# Altium footprint library LDO.PcbLib: 100 footprints (part 4 of 7)
Each footprint in its own frame and in the unit in brackets; x right, y up, seen from the top. Pads: shape width x height; smd on the part's side, far side on the other; paste and mask are expansions set on the pad; w line width, h text height; cw(c..) or ccw(c..) is an arc to the next point about the centre after c.
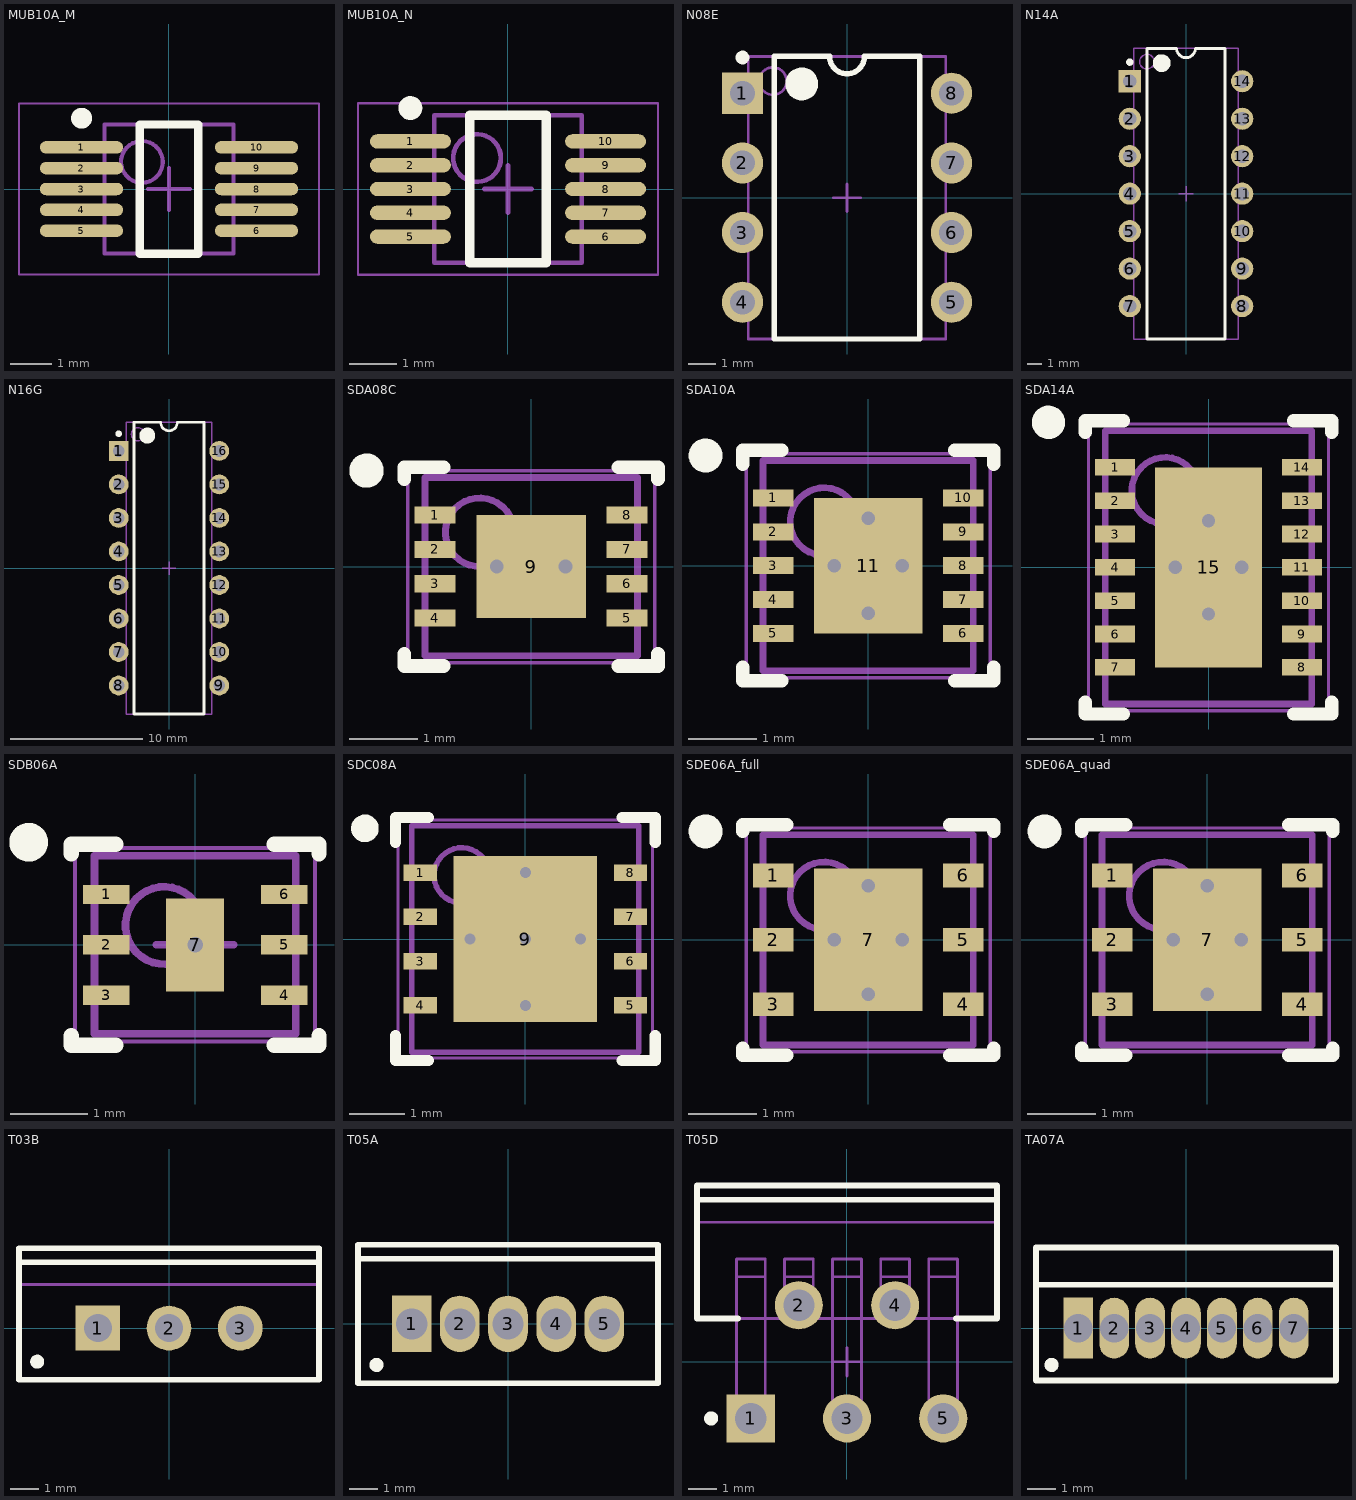
[diagram p3: the footprints below, top view; thin cyan lines are the x and y axes]

## MUB10A_M [mm] "TSSOP, 10-Leads, Body 3x3mm, Pitch 0.5mm, IPC Low Density"
height 1.09
pads (10):
  oval 2x0.3 smd: 1(-2.1,1) 2(-2.1,0.5) 3(-2.1,0) 4(-2.1,-0.5) 5(-2.1,-1) 6(2.1,-1) 7(2.1,-0.5) 8(2.1,0) 9(2.1,0.5) 10(2.1,1)
Top Overlay:
  circle w0.25: c-2.1,1.7 r0.125
  lines w0.2: -0.7,-1.55 0.7,-1.55 0.7,1.55 -0.7,1.55 -0.7,-1.55
Mechanical 13:
  circle w0.1: c-0.65,0.65 r0.5
  lines w0.1: -1.55,-1.55 1.55,-1.55 1.55,1.55 -1.55,1.55 -1.55,-1.55
Mechanical 15:
  lines w0.05: -3.6,-2.05 3.6,-2.05 3.6,2.05 -3.6,2.05 -3.6,-2.05
  lines w0.1: -0.5,0 0.5,0 ; 0,-0.5 0,0.5
3D body: height 1.09, standoff 0.06, extent -1.55,-1.55 1.55,1.55

## MUB10A_N [mm] "TSSOP, 10-Leads, Body 3x3mm, Pitch 0.5mm, IPC Medium Density"
height 1.09
pads (10):
  oval 1.7x0.3 smd: 1(-2.05,1) 2(-2.05,0.5) 3(-2.05,0) 4(-2.05,-0.5) 5(-2.05,-1) 6(2.05,-1) 7(2.05,-0.5) 8(2.05,0) 9(2.05,0.5) 10(2.05,1)
Top Overlay:
  circle w0.25: c-2.05,1.7 r0.125
  lines w0.2: -0.8,-1.55 0.8,-1.55 0.8,1.55 -0.8,1.55 -0.8,-1.55
Mechanical 13:
  circle w0.1: c-0.65,0.65 r0.5
  lines w0.1: -1.55,-1.55 1.55,-1.55 1.55,1.55 -1.55,1.55 -1.55,-1.55
Mechanical 15:
  lines w0.05: -3.15,-1.8 3.15,-1.8 3.15,1.8 -3.15,1.8 -3.15,-1.8
  lines w0.1: -0.5,0 0.5,0 ; 0,-0.5 0,0.5
3D body: height 1.09, standoff 0.06, extent -1.55,-1.55 1.55,1.55

## N08E [mm] "DIP, 8-Pin, Row Spacing 7.62 mm, Pitch 2.54 mm"
height 5.34
pads (8):
  rect 1.5x1.5 hole 0.9: 1(-3.81,3.81)
  round 1.5 hole 0.9: 2(-3.81,1.27) 3(-3.81,-1.27) 4(-3.81,-3.81) 5(3.81,-3.81) 6(3.81,-1.27) 7(3.81,1.27) 8(3.81,3.81)
Top Overlay:
  circle w0.6: c-1.65,4.15 r0.3
  circle w0.25: c-3.81,5.11 r0.125
  lines w0.2: -2.65,-5.15 2.65,-5.15 2.65,5.15 0.635,5.15 cw(c0,5.15) -0.635,5.15 -2.65,5.15 -2.65,-5.15
Mechanical 13:
  circle w0.1: c-2.7,4.25 r0.5
  lines w0.1: -3.6,-5.15 3.6,-5.15 3.6,5.15 -3.6,5.15 -3.6,-5.15
Mechanical 15:
  lines w0.1: -0.5,0 0.5,0 ; 0,-0.5 0,0.5
3D body: height 5.34, standoff 0, extent -3.6,-5.15 3.6,5.15

## N14A [mm] "DIP, 14-Pin, Row Spacing 7.62 mm, Pitch 2.54 mm"
height 5.08
pads (14):
  rect 1.5x1.5 hole 0.9: 1(-3.81,7.62)
  round 1.5 hole 0.9: 2(-3.81,5.08) 3(-3.81,2.54) 4(-3.81,0) 5(-3.81,-2.54) 6(-3.81,-5.08) 7(-3.81,-7.62) 8(3.81,-7.62) 9(3.81,-5.08) 10(3.81,-2.54) 11(3.81,0) 12(3.81,2.54) 13(3.81,5.08) 14(3.81,7.62)
Top Overlay:
  circle w0.25: c-3.81,8.92 r0.125
  circle w0.6: c-1.65,8.85 r0.3
  lines w0.2: -2.65,-9.85 -2.65,9.85 -0.635,9.85 ccw(c0,9.85) 0.635,9.85 2.65,9.85 2.65,-9.85 -2.65,-9.85
Mechanical 13:
  circle w0.1: c-2.65,8.95 r0.5
  lines w0.1: -3.55,-9.85 -3.55,9.85 3.55,9.85 3.55,-9.85 -3.55,-9.85
Mechanical 15:
  lines w0.1: -0.5,0 0.5,0 ; 0,-0.5 0,0.5
3D body: height 5.08, standoff 0, extent -3.55,-9.85 3.55,9.85

## N16G [mm] "DIP, 16-Pin, Row Spacing 7.62 mm, Pitch 2.54 mm"
height 5.08
pads (16):
  rect 1.5x1.5 hole 0.9: 1(-3.81,8.89)
  round 1.5 hole 0.9: 2(-3.81,6.35) 3(-3.81,3.81) 4(-3.81,1.27) 5(-3.81,-1.27) 6(-3.81,-3.81) 7(-3.81,-6.35) 8(-3.81,-8.89) 9(3.81,-8.89) 10(3.81,-6.35) 11(3.81,-3.81) 12(3.81,-1.27) 13(3.81,1.27) 14(3.81,3.81) 15(3.81,6.35) 16(3.81,8.89)
Top Overlay:
  circle w0.6: c-1.65,10.05 r0.3
  circle w0.25: c-3.81,10.19 r0.125
  lines w0.2: -2.65,-11.05 2.65,-11.05 2.65,11.05 0.635,11.05 cw(c0,11.05) -0.635,11.05 -2.65,11.05 -2.65,-11.05
Mechanical 13:
  circle w0.1: c-2.35,10.15 r0.5
  lines w0.1: -3.25,-11.05 3.25,-11.05 3.25,11.05 -3.25,11.05 -3.25,-11.05
Mechanical 15:
  lines w0.1: -0.5,0 0.5,0 ; 0,-0.5 0,0.5
3D body: height 5.08, standoff 0, extent -3.25,-11.05 3.25,11.05

## SDA08C [mm] "SON, 8-Leads, Body 2.5x3mm, Pitch 0.5mm, NSC Recommended"
height 0.8
pads (9):
  rect 0.6x0.25 smd paste-0.125 mask+0.051: 1(-1.4,0.75) 2(-1.4,0.25) 3(-1.4,-0.25) 4(-1.4,-0.75) 5(1.4,-0.75) 6(1.4,-0.25) 7(1.4,0.25) 8(1.4,0.75)
  rect 1.6x1.5 smd paste-0.05 mask+0.051: 9(0,0)
via 0.5,0 diameter 0.5 hole 0.2
via -0.5,0 diameter 0.5 hole 0.2
Top Overlay:
  circle w0.25: c-2.4,1.4 r0.125
  lines w0.2: -1.85,-1.275 -1.85,-1.45 -1.275,-1.45 ; -1.85,1.275 -1.85,1.45 -1.275,1.45 ; 1.275,-1.45 1.85,-1.45 1.85,-1.275 ; 1.275,1.45 1.85,1.45 1.85,1.275
Top Paste:
  region: -1.9,0.875 -1.9,0.625 -1.2,0.625 -1.2,0.875
  region: -1.9,0.375 -1.9,0.125 -1.2,0.125 -1.2,0.375
  region: -1.9,-0.125 -1.9,-0.375 -1.2,-0.375 -1.2,-0.125
  region: -1.9,-0.625 -1.9,-0.875 -1.2,-0.875 -1.2,-0.625
  region: 1.2,-0.625 1.2,-0.875 1.9,-0.875 1.9,-0.625
  region: 1.2,-0.125 1.2,-0.375 1.9,-0.375 1.9,-0.125
  region: 1.2,0.375 1.2,0.125 1.9,0.125 1.9,0.375
  region: 1.2,0.875 1.2,0.625 1.9,0.625 1.9,0.875
Mechanical 13:
  circle w0.1: c-0.75,0.5 r0.5
  lines w0.1: -1.55,-1.3 -1.55,1.3 1.55,1.3 1.55,-1.3 -1.55,-1.3
Mechanical 15:
  lines w0.05: -1.8,-1.4 1.8,-1.4 1.8,1.4 -1.8,1.4 -1.8,-1.4
  lines w0.1: -0.5,0 0.5,0 ; 0,-0.5 0,0.5
3D body: height 0.8, standoff 0, extent -1.549,-1.299 1.549,1.299

## SDA10A [mm] "SON, 10-Leads, Body 3x3 mm, Pitch 0.5mm, NSC Recommended"
height 0.8
pads (11):
  rect 0.6x0.25 smd paste-0.125 mask+0.051: 1(-1.4,1) 2(-1.4,0.5) 3(-1.4,0) 4(-1.4,-0.5) 5(-1.4,-1) 6(1.4,-1) 7(1.4,-0.5) 8(1.4,0) 9(1.4,0.5) 10(1.4,1)
  rect 1.6x2 smd paste-0.05 mask+0.051: 11(0,0)
via -0.5,0 diameter 0.5 hole 0.2
via 0.5,0 diameter 0.5 hole 0.2
via 0,0.7 diameter 0.5 hole 0.2
via 0,-0.7 diameter 0.5 hole 0.2
Top Overlay:
  circle w0.25: c-2.4,1.625 r0.125
  lines w0.2: -1.85,-1.5 -1.85,-1.7 -1.275,-1.7 ; -1.85,1.5 -1.85,1.7 -1.275,1.7 ; 1.275,-1.7 1.85,-1.7 1.85,-1.5 ; 1.275,1.7 1.85,1.7 1.85,1.5
Top Paste:
  rectangle: -1.9,0.875 -1.2,1.125
  rectangle: -1.9,0.375 -1.2,0.625
  rectangle: -1.9,-0.125 -1.2,0.125
  rectangle: -1.9,-0.625 -1.2,-0.375
  rectangle: -1.9,-1.125 -1.2,-0.875
  region: 1.9,1.125 1.2,1.125 1.2,0.875 1.9,0.875
  region: 1.9,0.625 1.2,0.625 1.2,0.375 1.9,0.375
  region: 1.9,0.125 1.2,0.125 1.2,-0.125 1.9,-0.125
  region: 1.9,-0.375 1.2,-0.375 1.2,-0.625 1.9,-0.625
  region: 1.9,-0.875 1.2,-0.875 1.2,-1.125 1.9,-1.125
Mechanical 13:
  circle w0.1: c-0.65,0.65 r0.5
  lines w0.1: -1.55,-1.55 -1.55,1.55 1.55,1.55 1.55,-1.55 -1.55,-1.55
Mechanical 15:
  lines w0.05: -1.8,-1.65 -1.8,1.65 1.8,1.65 1.8,-1.65 -1.8,-1.65
  lines w0.1: -0.5,0 0.5,0 ; 0,-0.5 0,0.5
3D body: height 0.8, standoff 0, extent -1.55,-1.55 1.55,1.55

## SDA14A [mm] "SON, 14-Leads, Body 4x3mm, Pitch 0.5mm, NSC Recommended"
height 0.8
pads (15):
  rect 0.6x0.25 smd paste-0.125 mask+0.051: 1(-1.4,1.5) 2(-1.4,1) 3(-1.4,0.5) 4(-1.4,0) 5(-1.4,-0.5) 6(-1.4,-1) 7(-1.4,-1.5) 8(1.4,-1.5) 9(1.4,-1) 10(1.4,-0.5) 11(1.4,0) 12(1.4,0.5) 13(1.4,1) 14(1.4,1.5)
  rect 1.6x3 smd paste-0.8 mask+0.051: 15(0,0)
via -0.5,0 diameter 0.5 hole 0.2
via 0.5,0 diameter 0.5 hole 0.2
via 0,0.7 diameter 0.5 hole 0.2
via 0,-0.7 diameter 0.5 hole 0.2
Top Overlay:
  circle w0.25: c-2.4,2.175 r0.125
  lines w0.2: -1.85,-2.025 -1.85,-2.2 -1.275,-2.2 ; -1.85,2.025 -1.85,2.2 -1.275,2.2 ; 1.275,-2.2 1.85,-2.2 1.85,-2.025 ; 1.275,2.2 1.85,2.2 1.85,2.025
Top Paste:
  region: -0.7,-0.1 -0.7,-1.4 -0.1,-1.4 -0.1,-0.1
  region: -0.1,0.1 -0.1,1.4 -0.7,1.4 -0.7,0.1
  region: 0.7,0.1 0.7,1.4 0.1,1.4 0.1,0.1
  region: 0.1,-0.1 0.1,-1.4 0.7,-1.4 0.7,-0.1
  region: 1.2,1.625 1.2,1.375 1.9,1.375 1.9,1.625
  region: 1.2,1.125 1.2,0.875 1.9,0.875 1.9,1.125
  region: 1.2,0.625 1.2,0.375 1.9,0.375 1.9,0.625
  region: 1.2,0.125 1.2,-0.125 1.9,-0.125 1.9,0.125
  region: 1.2,-0.375 1.2,-0.625 1.9,-0.625 1.9,-0.375
  region: 1.2,-0.875 1.2,-1.125 1.9,-1.125 1.9,-0.875
  region: 1.2,-1.375 1.2,-1.625 1.9,-1.625 1.9,-1.375
  region: -1.9,-1.375 -1.9,-1.625 -1.2,-1.625 -1.2,-1.375
  region: -1.9,-0.875 -1.9,-1.125 -1.2,-1.125 -1.2,-0.875
  region: -1.9,-0.375 -1.9,-0.625 -1.2,-0.625 -1.2,-0.375
  region: -1.9,0.125 -1.9,-0.125 -1.2,-0.125 -1.2,0.125
  region: -1.9,0.625 -1.9,0.375 -1.2,0.375 -1.2,0.625
  region: -1.9,1.125 -1.9,0.875 -1.2,0.875 -1.2,1.125
  region: -1.9,1.625 -1.9,1.375 -1.2,1.375 -1.2,1.625
Mechanical 13:
  circle w0.1: c-0.65,1.15 r0.5
  lines w0.1: -1.55,-2.05 1.55,-2.05 1.55,2.05 -1.55,2.05 -1.55,-2.05
Mechanical 15:
  lines w0.05: -1.8,-2.15 1.8,-2.15 1.8,2.15 -1.8,2.15 -1.8,-2.15
  lines w0.1: -0.5,0 0.5,0 ; 0,-0.5 0,0.5
3D body: height 0.8, standoff 0, extent -1.55,-2.05 1.55,2.05

## SDB06A [mm] "SON, 6-Leads, Body 2.2x2.5mm, Pitch 0.65mm, NSC Recommended (SC-70 Land)"
height 0.8
pads (7):
  rect 0.6x0.25 smd paste-0.125 mask+0.051: 1(-1.15,0.65) 2(-1.15,0) 3(-1.15,-0.65) 4(1.15,-0.65) 5(1.15,0) 6(1.15,0.65)
  rect 0.75x1.2 smd paste-0.6 mask+0.051: 7(0,0)
via 0,0 diameter 0.5 hole 0.2
Top Overlay:
  circle w0.25: c-2.15,1.325 r0.125
  lines w0.2: -1.6,-1.175 -1.6,-1.3 -1.025,-1.3 ; -1.6,1.175 -1.6,1.3 -1.025,1.3 ; 1.025,-1.3 1.6,-1.3 1.6,-1.175 ; 1.025,1.3 1.6,1.3 1.6,1.175
Top Paste:
  region: -0.355,0.57 -0.355,-0.57 0.355,-0.57 0.355,0.57
  region: -1.65,0.775 -1.65,0.525 -0.95,0.525 -0.95,0.775
  region: -1.65,0.125 -1.65,-0.125 -0.95,-0.125 -0.95,0.125
  region: -1.65,-0.525 -1.65,-0.775 -0.95,-0.775 -0.95,-0.525
  region: 0.95,-0.525 0.95,-0.775 1.65,-0.775 1.65,-0.525
  region: 0.95,0.125 0.95,-0.125 1.65,-0.125 1.65,0.125
  region: 0.95,0.775 0.95,0.525 1.65,0.525 1.65,0.775
Mechanical 13:
  circle w0.1: c-0.4,0.25 r0.5
  lines w0.1: -1.3,-1.15 1.3,-1.15 1.3,1.15 -1.3,1.15 -1.3,-1.15
Mechanical 15:
  lines w0.05: -1.55,-1.25 1.55,-1.25 1.55,1.25 -1.55,1.25 -1.55,-1.25
  lines w0.1: -0.5,0 0.5,0 ; 0,-0.5 0,0.5
3D body: height 0.8, standoff 0, extent -1.3,-1.15 1.3,1.15

## SDC08A [mm] "SON, 8-Leads, Body 4x4mm, Pitch 0.8mm, NSC Recommended"
height 0.8
pads (9):
  rect 0.6x0.3 smd paste-0.15 mask+0.051: 1(-1.9,1.2) 2(-1.9,0.4) 3(-1.9,-0.4) 4(-1.9,-1.2) 5(1.9,-1.2) 6(1.9,-0.4) 7(1.9,0.4) 8(1.9,1.2)
  rect 2.6x3 smd paste-1.5 mask+0.051: 9(0,0)
via -1,0 diameter 0.5 hole 0.2
via 0,0 diameter 0.5 hole 0.2
via 1,0 diameter 0.5 hole 0.2
via 0,1.2 diameter 0.5 hole 0.2
via 0,-1.2 diameter 0.5 hole 0.2
Top Overlay:
  circle w0.25: c-2.9,2 r0.125
  lines w0.2: -2.35,-1.75 -2.35,-2.2 -1.75,-2.2 ; -2.35,1.75 -2.35,2.2 -1.75,2.2 ; 1.75,-2.2 2.35,-2.2 2.35,-1.75 ; 1.75,2.2 2.35,2.2 2.35,1.75
Top Paste:
  rectangle: -1.2,-1.4 -0.1,-0.1
  region: 1.2,-0.1 0.1,-0.1 0.1,-1.4 1.2,-1.4
  region: 1.2,1.4 0.1,1.4 0.1,0.1 1.2,0.1
  rectangle: -1.2,0.1 -0.1,1.4
  rectangle: 1.7,1.05 2.4,1.35
  rectangle: 1.7,0.25 2.4,0.55
  rectangle: 1.7,-0.55 2.4,-0.25
  rectangle: 1.7,-1.35 2.4,-1.05
  region: -1.7,-1.05 -2.4,-1.05 -2.4,-1.35 -1.7,-1.35
  region: -1.7,-0.25 -2.4,-0.25 -2.4,-0.55 -1.7,-0.55
  region: -1.7,0.55 -2.4,0.55 -2.4,0.25 -1.7,0.25
  region: -1.7,1.35 -2.4,1.35 -2.4,1.05 -1.7,1.05
Mechanical 13:
  circle w0.1: c-1.15,1.15 r0.5
  lines w0.1: -2.05,-2.05 2.05,-2.05 2.05,2.05 -2.05,2.05 -2.05,-2.05
Mechanical 15:
  lines w0.05: -2.3,-2.15 2.3,-2.15 2.3,2.15 -2.3,2.15 -2.3,-2.15
  lines w0.1: -0.5,0 0.5,0 ; 0,-0.5 0,0.5
3D body: height 0.8, standoff 0, extent -2.05,-2.05 2.05,2.05

## SDE06A_full [mm] "SON, 6-Leads, Body 3x3 mm, Pitch 0.95mm, NSC Recommended"
height 0.8
pads (7):
  rect 0.6x0.35 smd paste-0.175 mask+0.051: 1(-1.4,0.95) 2(-1.4,0) 3(-1.4,-0.95) 4(1.4,-0.95) 5(1.4,0) 6(1.4,0.95)
  rect 1.6x2.1 smd paste-0.8 mask+0.051: 7(0,0)
via 0,-0.8 diameter 0.5 hole 0.2
via 0.5,0 diameter 0.5 hole 0.2
via 0,0.8 diameter 0.5 hole 0.2
via -0.5,0 diameter 0.5 hole 0.2
Top Overlay:
  circle w0.25: c-2.4,1.6 r0.125
  lines w0.2: -1.85,-1.6 -1.85,-1.7 -1.2,-1.7 ; -1.85,1.6 -1.85,1.7 -1.2,1.7 ; 1.2,-1.7 1.85,-1.7 1.85,-1.6 ; 1.2,1.7 1.85,1.7 1.85,1.6
Top Paste:
  rectangle: -0.76,-1 0.76,1
  region: 1.9,1.125 1.2,1.125 1.2,0.775 1.9,0.775
  region: 1.9,0.175 1.2,0.175 1.2,-0.175 1.9,-0.175
  region: 1.9,-0.775 1.2,-0.775 1.2,-1.125 1.9,-1.125
  rectangle: -1.9,-1.125 -1.2,-0.775
  rectangle: -1.9,-0.175 -1.2,0.175
  rectangle: -1.9,0.775 -1.2,1.125
Mechanical 13:
  circle w0.1: c-0.65,0.65 r0.5
  lines w0.1: -1.55,-1.55 1.55,-1.55 1.55,1.55 -1.55,1.55 -1.55,-1.55
Mechanical 15:
  lines w0.05: -1.8,-1.65 -1.8,1.65 1.8,1.65 1.8,-1.65 -1.8,-1.65
  lines w0.1: -0.5,0 0.5,0 ; 0,-0.5 0,0.5
3D body: height 0.8, standoff 0, extent -1.55,-1.55 1.55,1.55

## SDE06A_quad [mm] "SON, 6-Leads, Body 3x3 mm, Pitch 0.95mm, NSC Recommended"
height 0.8
pads (7):
  rect 0.6x0.35 smd paste-0.175 mask+0.051: 1(-1.4,0.95) 2(-1.4,0) 3(-1.4,-0.95) 4(1.4,-0.95) 5(1.4,0) 6(1.4,0.95)
  rect 1.6x2.1 smd paste-0.8 mask+0.051: 7(0,0)
via -0.5,0 diameter 0.5 hole 0.2
via 0,0.8 diameter 0.5 hole 0.2
via 0.5,0 diameter 0.5 hole 0.2
via 0,-0.8 diameter 0.5 hole 0.2
Top Overlay:
  circle w0.25: c-2.4,1.6 r0.125
  lines w0.2: -1.85,-1.6 -1.85,-1.7 -1.2,-1.7 ; -1.85,1.6 -1.85,1.7 -1.2,1.7 ; 1.2,-1.7 1.85,-1.7 1.85,-1.6 ; 1.2,1.7 1.85,1.7 1.85,1.6
Top Paste:
  rectangle: -1.9,0.775 -1.2,1.125
  rectangle: -1.9,-0.175 -1.2,0.175
  rectangle: -1.9,-1.125 -1.2,-0.775
  region: 1.9,-0.775 1.2,-0.775 1.2,-1.125 1.9,-1.125
  region: 1.9,0.175 1.2,0.175 1.2,-0.175 1.9,-0.175
  region: 1.9,1.125 1.2,1.125 1.2,0.775 1.9,0.775
  region: -0.1,1.05 -0.8,1.05 -0.8,0.1 -0.1,0.1
  rectangle: 0.1,0.1 0.8,1.05
  rectangle: 0.1,-1.05 0.8,-0.1
  region: -0.1,-0.1 -0.8,-0.1 -0.8,-1.05 -0.1,-1.05
Mechanical 13:
  circle w0.1: c-0.65,0.65 r0.5
  lines w0.1: -1.55,-1.55 -1.55,1.55 1.55,1.55 1.55,-1.55 -1.55,-1.55
Mechanical 15:
  lines w0.05: -1.8,-1.65 1.8,-1.65 1.8,1.65 -1.8,1.65 -1.8,-1.65
  lines w0.1: -0.5,0 0.5,0 ; 0,-0.5 0,0.5
3D body: height 0.8, standoff 0, extent -1.55,-1.55 1.55,1.55

## T03B [mm] "TO, Thru-Hole, Vertical, Heatsink Mounted; 3 In-Line Leads; Pitch 2.54 mm"
height 19.4
pads (3):
  rect 1.6x1.6 hole 1: 1(-2.54,0)
  round 1.6 hole 1: 2(0,0) 3(2.54,0)
Top Overlay:
  circle w0.25: c-4.7,-1.2 r0.125
  lines w0.2: -5.35,2.35 5.35,2.35 ; -5.35,-1.85 -5.35,2.85 5.35,2.85 5.35,-1.85 -5.35,-1.85
Mechanical 13:
  lines w0.1: -5.35,1.55 5.35,1.55 ; -5.35,-1.85 5.35,-1.85 5.35,2.85 -5.35,2.85 -5.35,-1.85
Mechanical 15:
  lines w0.1: -0.5,0 0.5,0 ; 0,-0.5 0,0.5
3D body: height 12.9, standoff 4, extent -5.4,-1.9 5.4,2.9
3D body: height 19.4, standoff 12.9, extent -5.349,1.551 5.349,2.849

## T05A [mm] "TO, Thru-Hole, Vertical, Heatsink Mounted; 5 In-Line Leads; Pitch 1.70 mm"
height 19.6
pads (5):
  rect 1.4x2 hole 1.1: 1(-3.4,0)
  oval 1.4x2 hole 1.1: 2(-1.7,0) 3(0,0) 4(1.7,0) 5(3.4,0)
Top Overlay:
  circle w0.25: c-4.65,-1.45 r0.125
  lines w0.2: -5.3,2.3 5.3,2.3 ; -5.3,-2.1 5.3,-2.1 5.3,2.8 -5.3,2.8 -5.3,-2.1
Mechanical 13:
  lines w0.1: -5.3,2.3 5.3,2.3 ; -5.3,-2.1 -5.3,2.8 5.3,2.8 5.3,-2.1 -5.3,-2.1 ; -3.91,-0.28 -3.91,0.28 -2.89,0.28 -2.89,-0.28 -3.91,-0.28 ; -2.21,-0.28 -2.21,0.28 -1.19,0.28 -1.19,-0.28 -2.21,-0.28 ; -0.51,-0.28 -0.51,0.28 0.51,0.28 0.51,-0.28 -0.51,-0.28 ; 1.19,-0.28 1.19,0.28 2.21,0.28 2.21,-0.28 1.19,-0.28 ; 2.89,-0.28 2.89,0.28 3.91,0.28 3.91,-0.28 2.89,-0.28
Mechanical 15:
  lines w0.1: -0.5,0 0.5,0 ; 0,-0.5 0,0.5
3D body: height 13, standoff 4.1, extent -5.35,-2.15 5.35,2.85
3D body: height 19.6, standoff 13, extent -5.299,2.301 5.299,2.799
3D body: height 4.1, standoff 0, extent -3.909,-0.279 -2.891,0.279
3D body: height 4.1, standoff 0, extent -2.209,-0.279 -1.191,0.279
3D body: height 4.1, standoff 0, extent 1.191,-0.279 2.209,0.279
3D body: height 4.1, standoff 0, extent 2.891,-0.279 3.909,0.279
3D body: height 4.1, standoff 0, extent -0.509,-0.279 0.509,0.279

## T05D [mm] "TO, Thru-Hole, Vertical, Heatsink Mounted; 5 Bent Staggered Leads; Pitch 1.7 mm"
height 21.1
pads (5):
  rect 1.7x1.7 hole 1.1: 1(-3.4,-2)
  round 1.7 hole 1.1: 2(-1.7,2) 3(0,-2) 4(1.7,2) 5(3.4,-2)
Top Overlay:
  circle w0.25: c-4.8,-2 r0.125
  lines w0.2: -5.3,5.73 5.3,5.73 ; -3.854,1.53 -5.3,1.53 -5.3,6.23 5.3,6.23 5.3,1.53 3.854,1.53
Mechanical 13:
  lines w0.1: -5.3,4.93 5.3,4.93 ; -3.91,-1.685 -3.91,-2.315 -2.89,-2.315 -2.89,-1.685 ; -3.91,-1.685 -2.89,-1.685 ; -3.91,-1.685 -3.91,3.005 ; -3.91,3.005 -2.89,3.005 ; -3.91,3.005 -3.91,3.635 -2.89,3.635 -2.89,3.005 ; -2.89,-1.685 -2.89,3.005 ; -2.21,2.315 -2.21,1.685 -1.19,1.685 -1.19,2.315 ; -2.21,2.315 -1.19,2.315 ; -2.21,2.315 -2.21,3.005 ; -2.21,3.005 -1.19,3.005 ; -2.21,3.005 -2.21,3.635 -1.19,3.635 -1.19,3.005 ; -1.19,2.315 -1.19,3.005 ; -0.51,-1.685 -0.51,3.005 ; -0.51,-1.685 0.51,-1.685 ; -0.51,-1.685 -0.51,-2.315 0.51,-2.315 0.51,-1.685 ; -0.51,3.005 -0.51,3.635 0.51,3.635 0.51,3.005 ; -0.51,3.005 0.51,3.005 ; 0.51,-1.685 0.51,3.005 ; 1.19,2.315 1.19,1.685 2.21,1.685 2.21,2.315 ; 1.19,2.315 2.21,2.315 ; 1.19,2.315 1.19,3.005 ; 1.19,3.005 2.21,3.005 ; 1.19,3.005 1.19,3.635 2.21,3.635 2.21,3.005 ; 2.21,2.315 2.21,3.005 ; 2.89,-1.685 2.89,3.005 ; 2.89,-1.685 2.89,-2.315 3.91,-2.315 3.91,-1.685 ; 2.89,-1.685 3.91,-1.685 ; 2.89,3.005 3.91,3.005 ; 2.89,3.005 2.89,3.635 3.91,3.635 3.91,3.005 ; 3.91,-1.685 3.91,3.005 ; -5.3,1.53 -5.3,6.23 5.3,6.23 5.3,1.53 -5.3,1.53
Mechanical 15:
  lines w0.1: -0.5,0 0.5,0 ; 0,-0.5 0,0.5
3D body: height 5.6, standoff 1.95, extent -3.909,3.006 -2.891,3.634
3D body: height 1.72, standoff 0.63, extent 2.891,-1.684 3.909,1.529
3D body: height 1.72, standoff 0.63, extent -0.509,-1.684 0.509,1.529
3D body: height 1.72, standoff 0.63, extent -3.909,-1.684 -2.891,1.529
3D body: height 0.93, standoff 0, extent 2.891,-2.314 3.909,-1.686
3D body: height 0.93, standoff 0, extent -0.509,-2.314 0.509,-1.686
3D body: height 0.93, standoff 0, extent -3.909,-2.314 -2.891,-1.686
3D body: height 2.26, standoff 1.42, extent -0.509,1.531 0.509,3.004
3D body: height 2.26, standoff 1.42, extent -3.909,1.531 -2.891,3.004
3D body: height 2.26, standoff 1.42, extent 2.891,1.531 3.909,3.004
3D body: height 2.26, standoff 0.63, extent 1.191,2.316 2.209,3.004
3D body: height 2.26, standoff 0.63, extent -2.209,2.316 -1.191,3.004
3D body: height 0.93, standoff 0, extent -2.209,1.686 -1.191,2.314
3D body: height 0.93, standoff 0, extent 1.191,1.686 2.209,2.314
3D body: height 5.6, standoff 1.95, extent 2.891,3.006 3.909,3.634
3D body: height 5.6, standoff 1.95, extent 1.191,3.006 2.209,3.634
3D body: height 5.6, standoff 1.95, extent -0.509,3.006 0.509,3.634
3D body: height 5.6, standoff 1.95, extent -2.209,3.006 -1.191,3.634
3D body: height 14.5, standoff 5.6, extent -5.35,1.48 5.35,6.28
3D body: height 21.1, standoff 14.5, extent -5.299,4.931 5.299,6.229

## TA07A [mm] "TO-220, Molded, 7 Lead, Straight"
height 19.6
pads (7):
  rect 1.05x2.15 hole 1: 1(-3.81,0)
  oval 1.05x2.15 hole 1: 2(-2.54,0) 3(-1.27,0) 4(0,0) 5(1.27,0) 6(2.54,0) 7(3.81,0)
Top Overlay:
  circle w0.25: c-4.75,-1.3 r0.125
  lines w0.2: -5.3,1.53 5.3,1.53 ; -5.3,-1.85 -5.3,2.85 5.3,2.85 5.3,-1.85 -5.3,-1.85
Mechanical 13:
  lines w0.1: -5.3,1.53 5.3,1.53 ; -5.3,-1.85 5.3,-1.85 5.3,2.85 -5.3,2.85 -5.3,-1.85
Mechanical 15:
  lines w0.1: -0.5,0 0.5,0 ; 0,-0.5 0,0.5
3D body: height 13, standoff 4.1, extent -5.35,-1.9 5.35,2.9
3D body: height 19.6, standoff 13, extent -5.299,1.531 5.299,2.849